# EAGLE library part E1260CS021 (library Displays)
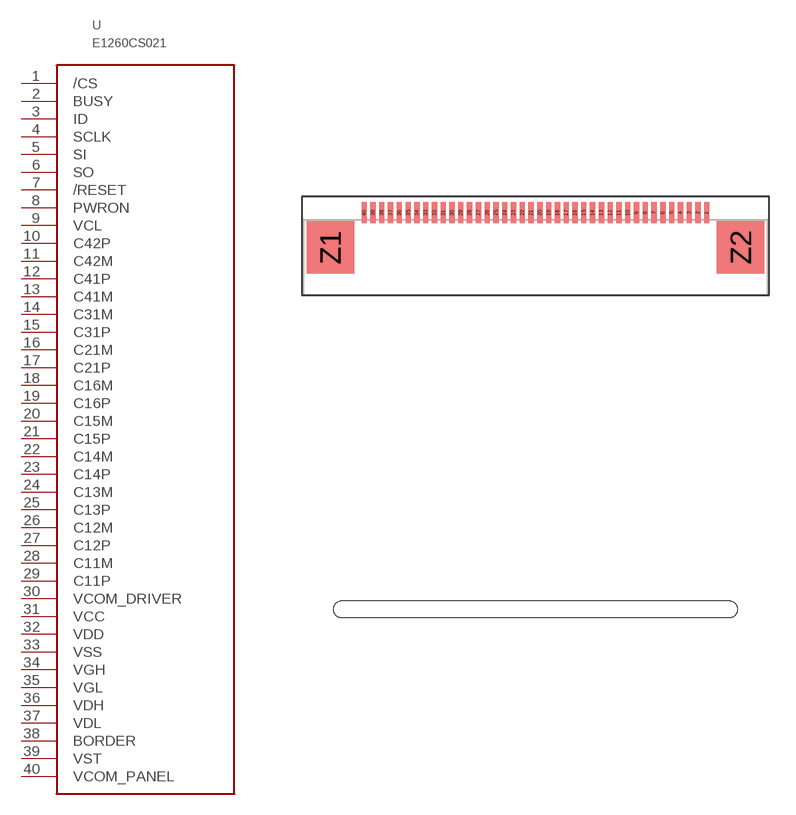
[diagram p1: symbol with the pads of E1260CS021_SLOT; footprint E1260CS021_SLOT]

Designator prefix -

## E1260CS021  [E1260CS021_SLOT]
1  /CS  in
2  BUSY  out
3  ID  in
4  SCLK  in
5  SI  in
6  SO  out
7  /RESET  in
8  PWRON  nc
9  VCL  pas
10  C42P  nc
11  C42M  nc
12  C41P  pas
13  C41M  pas
14  C31M  pas
15  C31P  pas
16  C21M  pas
17  C21P  pas
18  C16M  pas
19  C16P  pas
20  C15M  pas
21  C15P  pas
22  C14M  pas
23  C14P  pas
24  C13M  pas
25  C13P  pas
26  C12M  pas
27  C12P  pas
28  C11M  pas
29  C11P  pas
30  VCOM_DRIVER  pas
31  VCC  pwr
32  VDD  pwr
33  VSS  pwr
34  VGH  pas
35  VGL  pas
36  VDH  pas
37  VDL  pas
38  BORDER  in
39  VST  pwr
40  VCOM_PANEL  pas

## Footprint E1260CS021_SLOT (pad centres in mm)
WR-FPC 0.5mm SMT ZIF Horizontal Bottom Contact, 40 Pins
smd 0.3 x 1.2: 1 9.75,0.6; 2 9.25,0.6; 3 8.75,0.6; 4 8.25,0.6; 5 7.75,0.6; 6 7.25,0.6; 7 6.75,0.6; 8 6.25,0.6; 9 5.75,0.6; 10 5.25,0.6; 11 4.75,0.6; 12 4.25,0.6; 13 3.75,0.6; 14 3.25,0.6; 15 2.75,0.6; 16 2.25,0.6; 17 1.75,0.6; 18 1.25,0.6; 19 0.75,0.6; 20 0.25,0.6; 21 -0.25,0.6; 22 -0.75,0.6; 23 -1.25,0.6; 24 -1.75,0.6; 25 -2.25,0.6; 26 -2.75,0.6; 27 -3.25,0.6; 28 -3.75,0.6; 29 -4.25,0.6; 30 -4.75,0.6; 31 -5.25,0.6; 32 -5.75,0.6; 33 -6.25,0.6; 34 -6.75,0.6; 35 -7.25,0.6; 36 -7.75,0.6; 37 -8.25,0.6; 38 -8.75,0.6; 39 -9.25,0.6; 40 -9.75,0.6
smd 2.7 x 3: Z1 -11.68,-1.38; Z2 11.68,-1.38